# Altium footprint library Semiconductor.PcbLib: 33 footprints (part 2 of 3)
Each footprint in its own frame and in the unit in brackets; x right, y up, seen from the top. Pads: shape width x height; smd on the part's side, far side on the other; paste and mask are expansions set on the pad; w line width, h text height; cw(c..) or ccw(c..) is an arc to the next point about the centre after c.
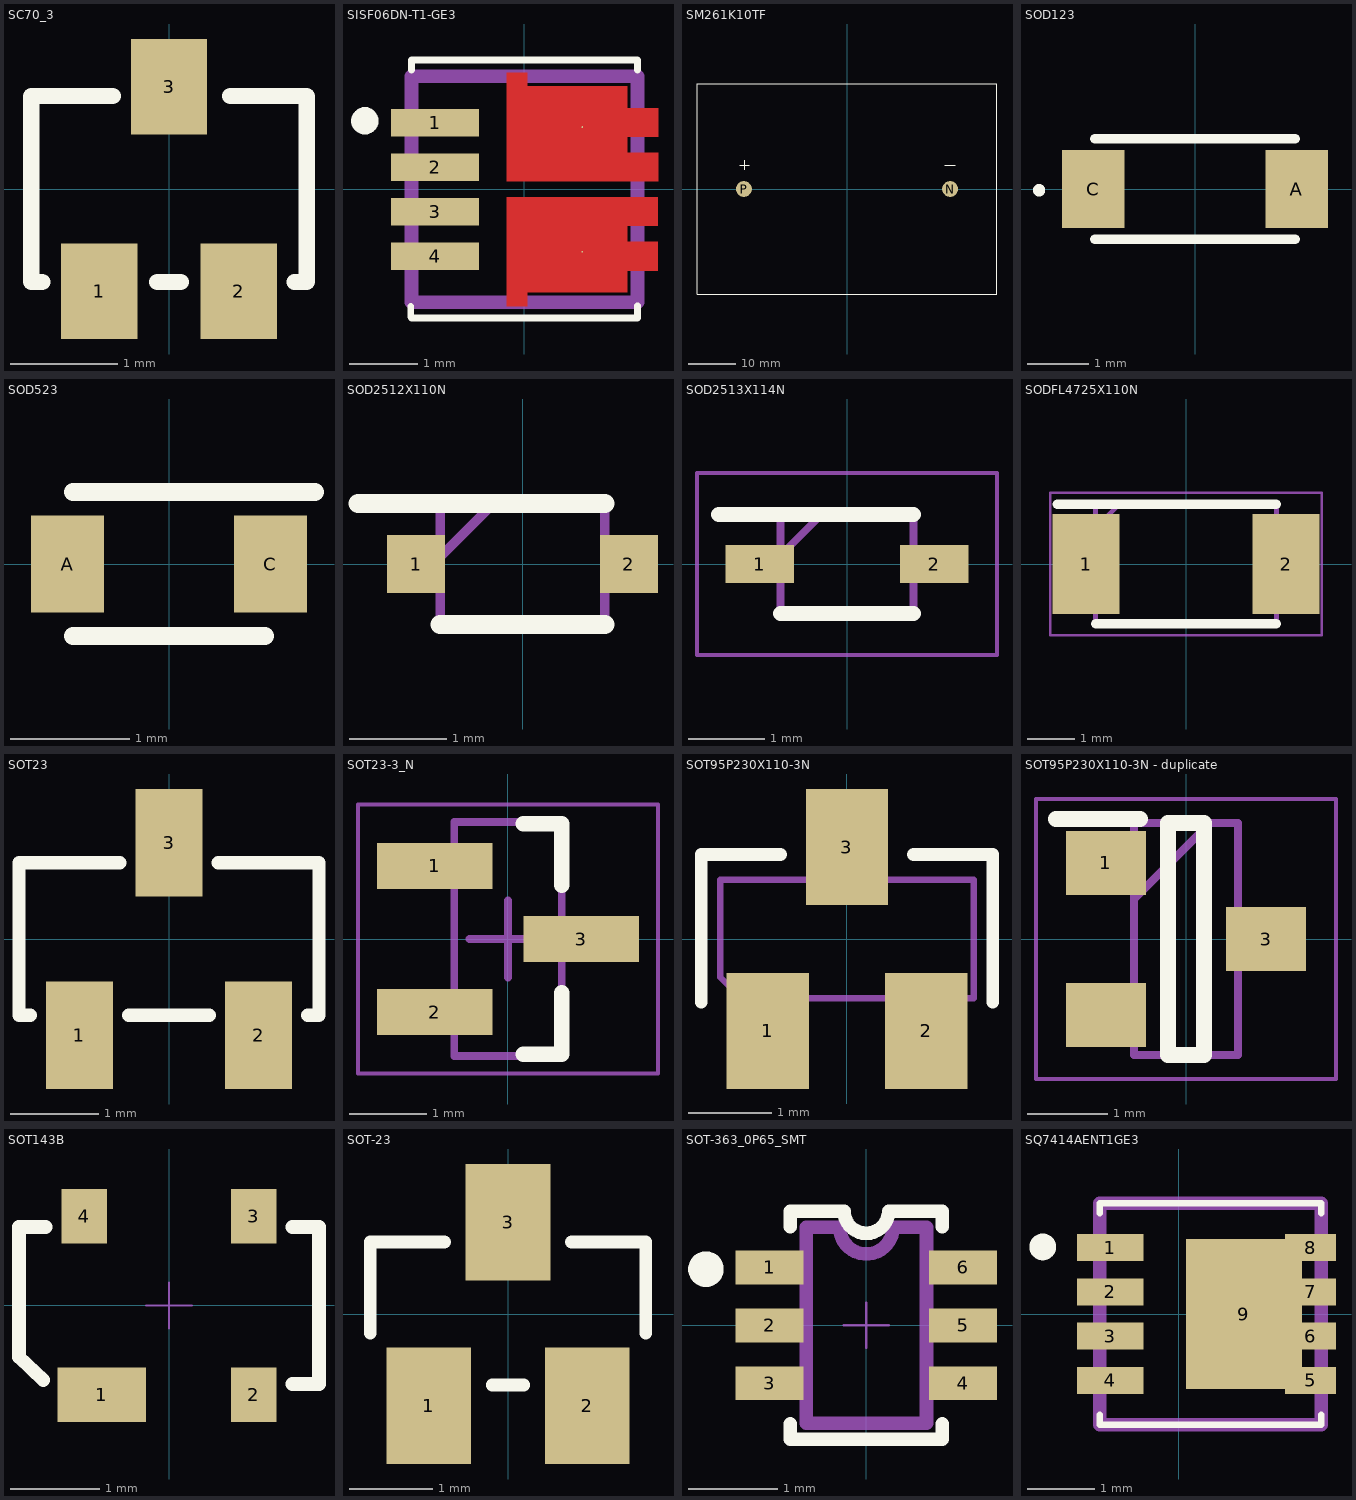
[diagram p1: the footprints below, top view; thin cyan lines are the x and y axes]

## SC70_3 [mil] "SC70_3"
pads (3):
  rect 28x35 smd: 1(-25.5,-37.47) 2(25.5,-37.47) 3(0,37.47)
Top Overlay:
  lines w6: -46.42,-34.06 -50.5,-34 -50.5,34 -20.67,34.06 ; -4.37,-34.06 4.33,-34.06 ; 22.48,34.06 50.5,34 50.5,-34 45.98,-34.06
  text ".Designator" at -123.62,-96.46 h35
3D body "NTS4001NT1G.stp": height -14, standoff -53.37, extent -39.37,-43.31 39.37,43.31

## SISF06DN-T1-GE3 [mm]
pads (6):
  rect 1.29x0.4 smd: 1(-1.305,0.975) 2(-1.305,0.325) 3(-1.305,-0.325) 4(-1.305,-0.975)
  round 0.025 smd: 5(0.845,-0.91) 6(0.845,0.91)
Top Layer:
  region: -0.26,-1.705 0.04,-1.705 0.04,-1.505 1.5,-1.505 1.5,-1.185 1.95,-1.185 1.95,-0.765 1.5,-0.765 1.5,-0.535 1.95,-0.535 1.95,-0.115 -0.26,-0.115
  region: -0.26,1.705 0.04,1.705 0.04,1.505 1.5,1.505 1.5,1.185 1.95,1.185 1.95,0.765 1.5,0.765 1.5,0.535 1.95,0.535 1.95,0.115 -0.26,0.115
Top Overlay:
  lines w0.1: -1.66,-1.86 -1.66,-1.71 ; -1.65,-1.88 1.65,-1.88 ; -1.65,1.74 -1.65,1.89 1.65,1.89 1.65,1.74 ; 1.65,-1.85 1.65,-1.7
  lines w0.2: -2.33,0.9 cw(c-2.33,1) -2.33,1.1 cw(c-2.33,1) -2.33,0.9
  text ".Designator" at -2.41,2.3 h0.64
Mechanical 7:
  lines w0.1: -1.892,1 ccw(c-1.842,1) -1.792,1 ccw(c-1.842,1) -1.892,1
Top 3D Body:
  lines w0.2: -1.65,-1.65 -1.65,1.65 1.65,1.65 1.65,-1.65 -1.65,-1.65
3D body "SI7111EDN-T1-GE3.stp": height 1.06, standoff 0, extent -1.65,-1.65 1.65,1.65

## SM261K10TF [mm]
height 1.2
pads (2):
  round 3.4 smd: N(22,0) P(-22,0)
Top Overlay:
  lines w0.127: -32,-22.5 32,-22.5 32,22.5 -32,22.5 -32,-22.5
  lines w0.254: -22.86,5.08 -20.828,5.08 ; -21.844,4.064 -21.844,6.096 ; 20.828,5.08 21.679,5.08 22.441,5.08 23.114,5.08
3D body "SM141K08TFVS.step": height 1.2, standoff 0, extent -32,-22.5 32,22.5

## SOD123 [mil] "SOD123"
pads (2):
  rect 40x50 smd: A(65,0) C(-65,0)
Top Overlay:
  lines w3.94: -101.57,-0.79 ccw(c-99.61,-0.79) -97.64,-0.79 ccw(c-99.61,-0.79) -101.57,-0.79
  lines w6: -64,-32 64,-32 ; -64,32 64,32
  text ".Designator" at 134.25,-75.2 h35
3D body "RB160M-30TR.stp": height 39.37, standoff 0, extent -73.43,-31.5 73.43,31.5

## SOD523 [mil] "SOD523"
pads (2):
  rect 24x32 smd: A(-33.46,0) C(33.46,0)
Top Overlay:
  lines w6: -31.61,-23.74 31.61,-23.74 ; -31.61,23.74 48.03,23.74
  text ".Designator" at -120.47,-68.5 h35
3D body "UCLAMP1201H.TCT.stp": height 27.56, standoff 0, extent -31.5,-15.75 31.5,15.75

## SOD2512X110N [mm]
pads (2):
  rect 0.6x0.6 smd: 1(-1.1,0) 2(1.1,0)
Top Overlay:
  lines w0.2: -1.7,0.625 0.85,0.625 ; -0.85,-0.625 0.85,-0.625
Top 3D Body:
  lines w0.1: -0.85,0.075 -0.3,0.625 ; -0.85,-0.625 0.85,-0.625 0.85,0.625 -0.85,0.625 -0.85,-0.625
3D body "BZX384-C5V6.stp": height 0.93, standoff 0, extent -1.244,-0.623 1.245,0.627

## SOD2513X114N [mm]
pads (2):
  rect 0.9x0.5 smd: 1(-1.15,0) 2(1.15,0)
Top Overlay:
  lines w0.2: -1.688,0.65 0.875,0.65 ; -0.875,-0.65 0.875,-0.65
Top 3D Body:
  lines w0.1: -0.875,0.112 -0.338,0.65 ; -0.875,-0.65 0.875,-0.65 0.875,0.65 -0.875,0.65 -0.875,-0.65
Top Courtyard:
  lines w0.05: -1.975,-1.2 1.975,-1.2 1.975,1.2 -1.975,1.2 -1.975,-1.2
3D body "CDSOD323-T03SC.stp": height 1.14, standoff 0, extent -1.272,-0.65 1.272,0.65

## SODFL4725X110N [mm]
pads (2):
  rect 1.4x2.1 smd: 1(-2.1,0) 2(2.1,0)
Top Overlay:
  lines w0.2: -2.7,1.25 1.9,1.25 ; -1.9,-1.25 1.9,-1.25
Top 3D Body:
  lines w0.1: -1.9,0.75 -1.4,1.25 ; -1.9,-1.25 1.9,-1.25 1.9,1.25 -1.9,1.25 -1.9,-1.25
Top Courtyard:
  lines w0.05: -2.85,-1.5 2.85,-1.5 2.85,1.5 -2.85,1.5 -2.85,-1.5
3D body "PMEG3020BEP,115.stp": height 1.07, standoff 0, extent -2.346,-1.305 2.354,1.295

## SOT23 [mil] "SOT23"
pads (3):
  rect 30x48 smd: 1(-40,-43) 2(40,-43) 3(0,43)
Top Overlay:
  lines w6: -62,-34 -67,-34 -67,34 -22,34 ; -18,-34 18,-34 ; 22,34 67,34 67,-34 62,-34
  text ".Designator" at -121.26,-122.05 h35
3D body "MMBTA05LT1G.stp": height 43.7, standoff 0, extent -57.48,-46.65 57.48,46.65

## SOT23-3_N [mm] "SOT23, 3-Leads, Body 2.9x1.3mm, Pitch 0.95mm, Lead Span 2.4mm, IPC Medium Density"
height 1.12
pads (3):
  rect 1.5x0.6 smd: 1(-0.95,0.95) 2(-0.95,-0.95) 3(0.95,0)
Top Overlay:
  lines w0.2: 0.2,-1.5 0.7,-1.5 0.7,-0.7 ; 0.2,1.5 0.7,1.5 0.7,0.7
  text ".Designator" at -2.45,-2.52 h0.64
Top 3D Body:
  lines w0.1: -0.7,-1.52 0.7,-1.52 0.7,1.52 -0.7,1.52 -0.7,-1.52
Top Courtyard:
  lines w0.05: -1.95,-1.75 1.95,-1.75 1.95,1.75 -1.95,1.75 -1.95,-1.75
  lines w0.1: -0.5,0 0.5,0 ; 0,-0.5 0,0.5
3D body: height 1.12, standoff 0.01, extent -0.7,-1.52 0.7,1.52

## SOT95P230X110-3N [mil]
pads (3):
  rect 39x55 smd: 1(-37.5,-43.5) 2(37.48,-43.5) 3(0,43.5)
Top Overlay:
  lines w6: -69,-30 -69,40 -31.5,40 ; 31.5,40 69,40 69,-30
  text ".Designator" at -42,113.5 h25
Top Assembly:
  lines w3: -60,-18.16 -50.16,-28 60,-28 60,28 -60,28 -60,-18.16
  text "3" at -6.81,72.77 h30
  text "2" at 26.73,-36.15 h30
  text "1" at -49.49,-36.97 h30
Mechanical 32:
  text "1" at -45.5,-43.5 h20
  text "3" at -8,43.5 h20
  text "2" at 29.5,-43.5 h20
3D body "User Library-SOT95P240X110-3M[SOT23-3_TO-236AB].STEP": height 43.11, standoff 0, extent -59.06,-49.21 59.06,49.21

## SOT95P230X110-3N - duplicate [mm]
pads (3):
  rect 1x0.8 smd: 1(-1,0.95) 3(1,0) ""(-1,-0.95)
Top Overlay:
  lines w0.2: -1.625,1.5 -0.575,1.5 ; -0.225,-1.45 0.225,-1.45 0.225,1.45 -0.225,1.45 -0.225,-1.45
Top Courtyard:
  lines w0.1: -0.65,0.5 0.3,1.45 ; -0.65,-1.45 0.65,-1.45 0.65,1.45 -0.65,1.45 -0.65,-1.45
Bottom Assembly:
  lines w0.05: -1.875,-1.75 1.875,-1.75 1.875,1.75 -1.875,1.75 -1.875,-1.75
3D body "PLVA653A,215.stp": height 0.89, standoff -0.06, extent -1.194,-1.45 1.207,1.45

## SOT143B [mil] "SOT143B"
pads (4):
  rect 39x24 smd: 1(-29.53,-39.37)
  rect 20x24 smd: 2(37.4,-39.37) 3(37.4,39.37) 4(-37.4,39.37)
Top Overlay:
  lines w6: -55.37,-32.8 -66.06,-22.75 -66.06,34.56 -54.4,34.56 ; 54.4,-34.56 66.06,-34.56 66.06,34.56 54.4,34.56
  text ".Designator" at 118.11,-116.93 h35
Top Component Center:
  lines w1: -10,0 10,0 ; 0,-10 0,10
3D body "BAS28,215.STEP": height 42.31, standoff -1, extent -56.88,-44.28 57.3,46.28

## SOT-23 [mil] "SOT-23"
pads (3):
  rect 40x55 smd: 1(-37.4,-43.3) 2(37.4,-43.3) 3(0,43.3)
Top Overlay:
  lines w6: -65,-9 -65,34 -30,34 ; -7.4,-33.5 7.4,-33.5 ; 30,34 65,34 65,-9
3D body "MMBTA05LT1G.stp": height 43.7, standoff 0, extent -57.48,-46.65 57.48,46.65

## SOT-363_0P65_SMT [mil] "SOT-363_0P65_SMT"
pads (6):
  rect 30x15 smd: 1(-42.72,25.59) 2(-42.72,0) 3(-42.72,-25.59) 4(42.72,-25.59) 5(42.72,0) 6(42.72,25.59)
Top Overlay:
  lines w6: -33.57,-43.59 -33.57,-50.31 33.57,-50.31 33.57,-43.59 ; -33.57,43.59 -33.57,50.31 -9.84,50.31 ccw(c0,50.48) 9.84,50.31 ; 9.84,50.36 33.57,50.31 33.57,43.59
  lines w7.87: -70.87,20.87 ccw(c-70.87,24.8) -70.87,28.74 ccw(c-70.87,24.8) -70.87,20.87
  text ".Designator" at -82.68,-81.89 h25
Top Assembly:
  lines w6: -26.57,-43.31 26.57,-43.31 26.57,43.31 11.81,43.31 cw(c0,43.31) -11.81,43.31 -26.57,43.31 -26.57,-43.31
Top Component Center:
  lines w1: -10,0 10,0 ; 0,-10 0,10
3D body "BC846AS-7.stp": height 43.31, standoff 0, extent -41.34,-39.37 41.34,39.37

## SQ7414AENT1GE3 [mm]
pads (9):
  rect 0.99x0.405 smd: 1(-1.018,0.99) 2(-1.018,0.33) 3(-1.018,-0.33) 4(-1.018,-0.99)
  rect 0.76x0.405 smd: 5(1.967,-0.99) 6(1.967,-0.33) 7(1.967,0.33) 8(1.967,0.99)
  rect 1.725x2.235 smd: 9(0.974,0)
Top Overlay:
  lines w0.1: -1.175,-1.5 -1.175,-1.65 2.125,-1.65 2.125,-1.5 ; -1.175,1.5 -1.175,1.65 2.125,1.65 2.125,1.5
  lines w0.2: -2.025,0.9 cw(c-2.025,1) -2.025,1.1 cw(c-2.025,1) -2.025,0.9
  text ".Designator" at -1.72,-2.67 h0.64
Top 3D Body:
  lines w0.2: -1.175,-1.65 2.125,-1.65 2.125,1.65 -1.175,1.65 -1.175,-1.65
3D body "SI7111EDN-T1-GE3.stp": height 1.06, standoff 0, extent -1.25,-1.65 2.05,1.65